# EAGLE library part M50-3600842 (library SamacSys_Parts)
1.27mm (0.05") Pitch DIL Vertical SMT Pin Header, selective gold + tin, 8+8 contacts Source: Datasheet <https://cdn.harwin.com/pdfs/M50-360.pdf>
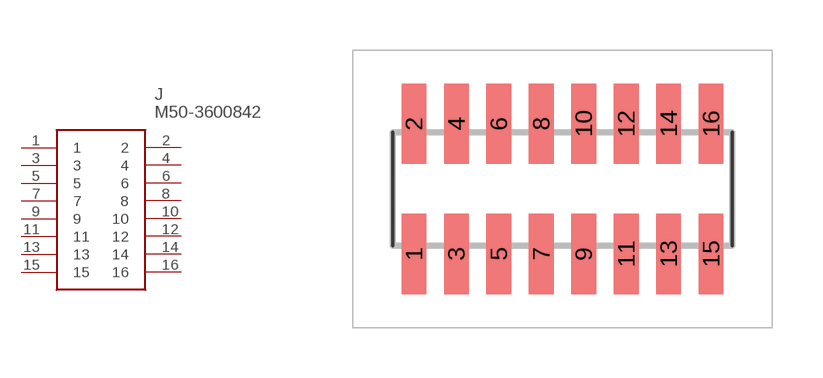
[diagram p5: symbol with the pads of M50-3600842; footprint M50-3600842]

Designator prefix J

## M50-3600842 (DESCRIPTION: 1.27mm (0.05") Pitch DIL Vertical SMT Pin Header, selective gold + tin, 8+8 contacts; HEIGHT: mm; MANUFACTURER_NAME: Harwin; MANUFACTURER_PART_NUMBER: M50-3600842; MOUSER_PART_NUMBER: 855-M50-3600842; MOUSER_PRICE-STOCK: https://www.mouser.co.uk/ProductDetail/Harwin/M50-3600842/?qs=9fQaSFfsqszLsATnHCzuvA%3D%3D)  [M50-3600842]
1  1
2  2
3  3
4  4
5  5
6  6
7  7
8  8
9  9
10  10
11  11
12  12
13  13
14  14
15  15
16  16

## Footprint M50-3600842 (pad centres in mm)
M50-3600842
smd 0.74 x 2.4: 1 -4.445,-1.95; 2 -4.445,1.95; 3 -3.175,-1.95; 4 -3.175,1.95; 5 -1.905,-1.95; 6 -1.905,1.95; 7 -0.635,-1.95; 8 -0.635,1.95; 9 0.635,-1.95; 10 0.635,1.95; 11 1.905,-1.95; 12 1.905,1.95; 13 3.175,-1.95; 14 3.175,1.95; 15 4.445,-1.95; 16 4.445,1.95